# Altium schematic symbol library TBD62783AFG_EL.SchLib: 1 symbol
Pins are listed as number, name and electrical type; pins without a type are passive.

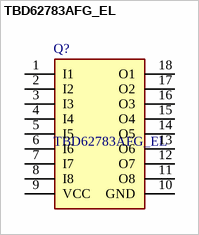
[diagram p0: symbol TBD62783AFG_EL]

## TBD62783AFG_EL
designator Q?
Gate Drivers DMOS Transistor Array8-CH, 50V/0.5A; Manufacturer_Name: Toshiba; Manufacturer_Part_Number: TBD62783AFG,EL; Geometry.Height: 2.45mm; Mouser Part Number: 757-TBD62783AFGEL; Mouser Price/Stock: https://www.mouser.co.uk/ProductDetail/Toshiba/TBD62783AFGEL?qs=fSnNYG2PaKJyPGRf9HI0JA%3D%3D; Datasheet Link: *
footprint SOIC127P1030X245-18N
pins: 1 I1, 2 I2, 3 I3, 4 I4, 5 I5, 6 I6, 7 I7, 8 I8, 9 VCC (power), 10 GND, 11 O8, 12 O7, 13 O6, 14 O5, 15 O4, 16 O3, 17 O2, 18 O1